# EAGLE library part REF34* (library texas)
VOLTAGE REFERENCE Low-Noise, Very Low Drift, Precision
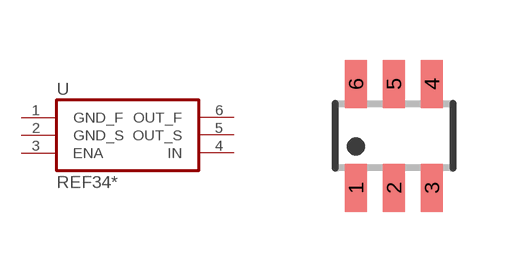
[diagram p129: symbol with the pads of SOT23-6; footprint SOT23-6]

Designator prefix U

## REF3425IDBV (VOLTAGE: 2.5V), REF3430IDBV (VOLTAGE: 3.0V), REF3433IDBV (VOLTAGE: 3.3V), REF3440IDBV (VOLTAGE: 4.0V), REF3450IDBV (VOLTAGE: 5.0V)  [SOT23-6]
1  GND_F  in
2  GND_S  in
3  ENA  in
4  IN  in
5  OUT_S  pas
6  OUT_F  pas

## Footprint SOT23-6 (pad centres in mm)
SOT-23 - DBV 0.95 mm pitch
smd 0.55 x 1.2: 1 -0.95,-1.3; 2 0,-1.3; 3 0.95,-1.3; 4 0.95,1.3; 5 0,1.3; 6 -0.95,1.3